# EAGLE library part MCU_NRF52805-CAAA-R (library !GPLIB_ACTIVE)
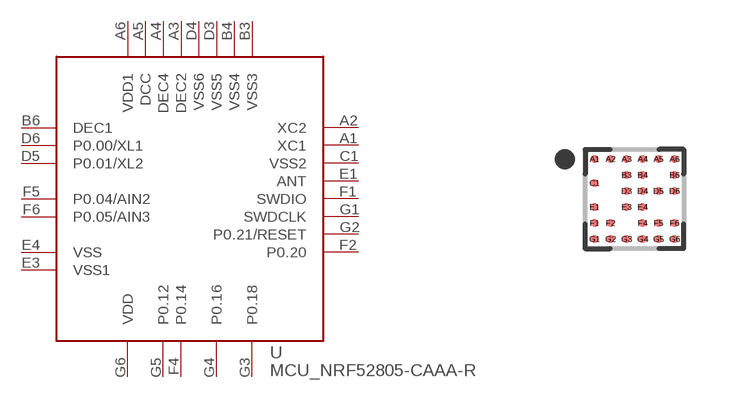
[diagram p89: symbol with the pads of NRF52805; footprint NRF52805]

Designator prefix U

## MCU_NRF52805-CAAA-R  [NRF52805]
A1  XC1
A2  XC2
A3  DEC2
A4  DEC4
A5  DCC
A6  VDD1
B3  VSS3
B4  VSS4
B6  DEC1
C1  VSS2
D3  VSS5
D4  VSS6
D5  P0.01/XL2
D6  P0.00/XL1
E1  ANT
E3  VSS1
E4  VSS
F1  SWDIO
F2  P0.20
F4  P0.14
F5  P0.04/AIN2
F6  P0.05/AIN3
G1  SWDCLK
G2  P0.21/RESET
G3  P0.18
G4  P0.16
G5  P0.12
G6  VDD

## Footprint NRF52805 (pad centres in mm)
36-BGA, collapsing, 0.40 mm pitch, 2.46 X 2.48 X 0.54 mm body 36-pin collapsing BGA package with 0.40 mm col pitch and 0.40 mm row pitch with body size 2.48 X 2.46 X 0.54 mm
smd 0.2 x 0.2: A1 -1,1; A2 -0.6,1; A3 -0.2,1; A4 0.2,1; A5 0.6,1; A6 1,1; B3 -0.2,0.6; B4 0.2,0.6; B6 1,0.6; C1 -1,0.4; D3 -0.2,0.2; D4 0.2,0.2; D5 0.6,0.2; D6 1,0.2; E1 -1,-0.2; E3 -0.2,-0.2; E4 0.2,-0.2; F1 -1,-0.6; F2 -0.6,-0.6; F4 0.2,-0.6; F5 0.6,-0.6; F6 1,-0.6; G1 -1,-1; G2 -0.6,-1; G3 -0.2,-1; G4 0.2,-1; G5 0.6,-1; G6 1,-1